# EAGLE library part TVS_DIODE_ARRAY (library SparkFun-DiscreteSemi)
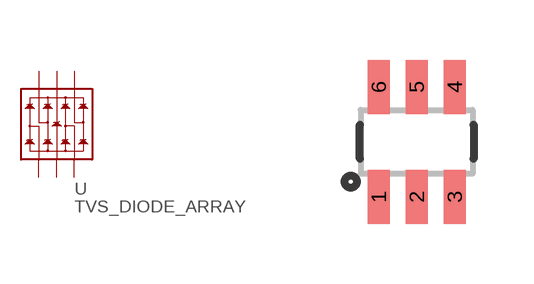
[diagram p10: symbol with the pads of SOT-23-6; footprint SOT-23-6]

Designator prefix U

## TVS_DIODE_ARRAYSMD (PROD_ID: IC-13538; VALUE: ESD Diode)  [SOT-23-6]
1  IO1
2  VSS
3  IO2
4  IO3
5  VCC
6  IO4

## Footprint SOT-23-6 (pad centres in mm)
smd 0.55 x 1.35: 1 -0.95,-1.375; 2 0,-1.375; 3 0.95,-1.375; 4 0.95,1.375; 5 0,1.375; 6 -0.95,1.375